# Altium schematic symbol library Schlib1.SchLib: 2 symbols
Pins are listed as number, name and electrical type; pins without a type are passive.

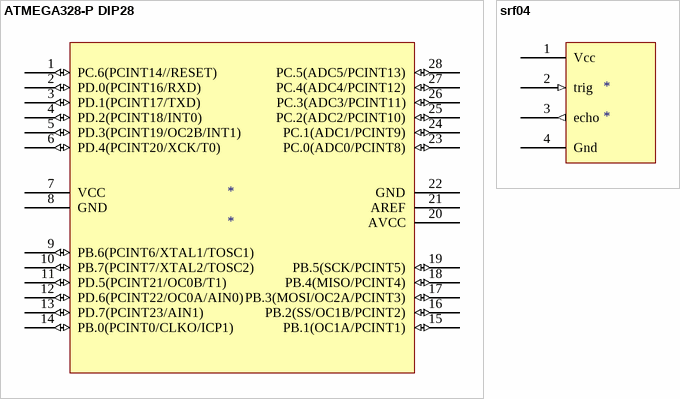
[diagram p0: symbols ATMEGA328-P DIP28 to srf04]

## ATMEGA328-P DIP28
designator *
footprint DIP-28-
pins: 1 PC.6(PCINT14//RESET) (io), 2 PD.0(PCINT16/RXD) (io), 3 PD.1(PCINT17/TXD) (io), 4 PD.2(PCINT18/INT0) (io), 5 PD.3(PCINT19/OC2B/INT1) (io), 6 PD.4(PCINT20/XCK/T0) (io), 7 VCC (power), 8 GND (power), 9 PB.6(PCINT6/XTAL1/TOSC1) (io), 10 PB.7(PCINT7/XTAL2/TOSC2) (io), 11 PD.5(PCINT21/OC0B/T1) (io), 12 PD.6(PCINT22/OC0A/AIN0) (io), 13 PD.7(PCINT23/AIN1) (io), 14 PB.0(PCINT0/CLKO/ICP1) (io), 15 PB.1(OC1A/PCINT1) (io), 16 PB.2(SS/OC1B/PCINT2) (io), 17 PB.3(MOSI/OC2A/PCINT3) (io), 18 PB.4(MISO/PCINT4) (io), 19 PB.5(SCK/PCINT5) (io), 20 AVCC (power), 21 AREF (power), 22 GND (power), 23 PC.0(ADC0/PCINT8) (io), 24 PC.1(ADC1/PCINT9) (io), 25 PC.2(ADC2/PCINT10) (io), 26 PC.3(ADC3/PCINT11) (io), 27 PC.4(ADC4/PCINT12) (io), 28 PC.5(ADC5/PCINT13) (io)

## srf04
designator *
footprint H-1x4
pins: 1 Vcc (power), 2 trig (in), 3 echo (out), 4 Gnd (power)